# EAGLE library part LM2596 (library lm2596s4)
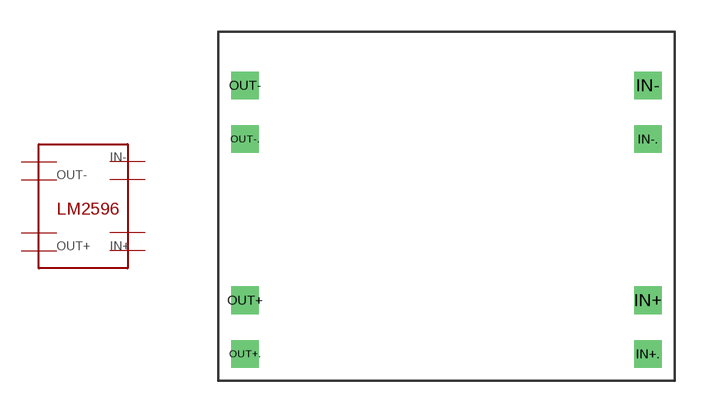
[diagram p0: symbol with the pads of LM25; footprint LM25]

Designator prefix -

## LM2596  [LM25]
IN+  IN+  in
IN+.  IN+.  in
IN-  IN-  in
IN-.  IN-.  in
OUT+  OUT+  out
OUT+.  OUT+.  out
OUT-  OUT-  out
OUT-.  OUT_  out

## Footprint LM25 (pad centres in mm)
drill 0.8 square: IN+ 0,2.54; IN+. 0,0; IN- 0,12.7; IN-. 0,10.16; OUT+ -19.05,2.54; OUT+. -19.05,0; OUT- -19.05,12.7; OUT-. -19.05,10.16